# Altium schematic symbol library Triac.SchLib: 1 symbol
Pins are listed as number, name and electrical type; pins without a type are passive.

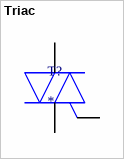
[diagram p0: symbol Triac]

## Triac
designator T?
footprint TO-220
pins: 1, 2, 3